# Altium footprint library HTSSOP-28_PPAD.PcbLib: 1 footprints
Each footprint in its own frame and in the unit in brackets; x right, y up, seen from the top. Pads: shape width x height; smd on the part's side, far side on the other; paste and mask are expansions set on the pad; w line width, h text height; cw(c..) or ccw(c..) is an arc to the next point about the centre after c.
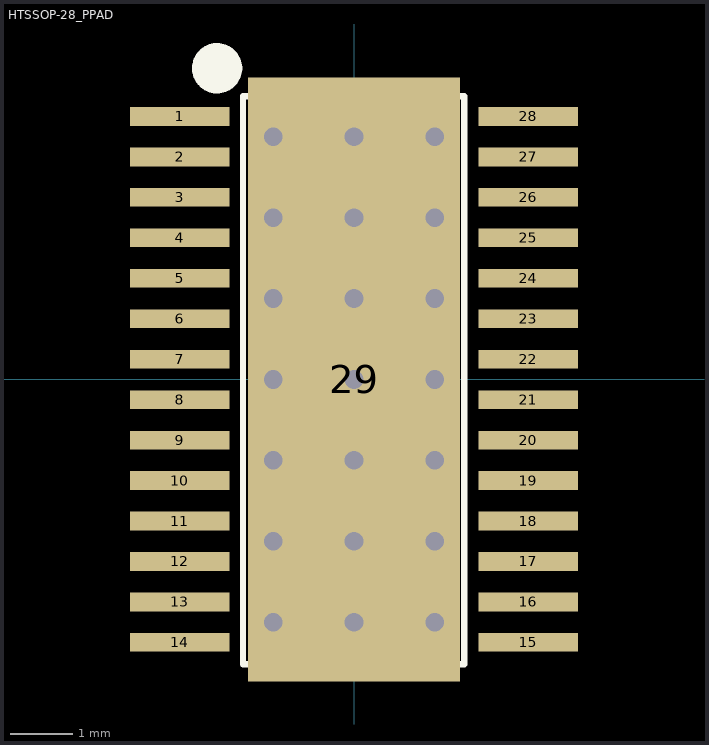
[diagram p0: the footprint, top view; thin cyan lines are the x and y axes]

## HTSSOP-28_PPAD [mm]
pads (29):
  rect 1.6x0.3 smd mask+0.07: 1(-2.8,4.225) 2(-2.8,3.575) 3(-2.8,2.925) 4(-2.8,2.275) 5(-2.8,1.625) 6(-2.8,0.975) 7(-2.8,0.325) 8(-2.8,-0.325) 9(-2.8,-0.975) 10(-2.8,-1.625) 11(-2.8,-2.275) 12(-2.8,-2.925) 13(-2.8,-3.575) 14(-2.8,-4.225) 15(2.8,-4.225) 16(2.8,-3.575) 17(2.8,-2.925) 18(2.8,-2.275) 19(2.8,-1.625) 20(2.8,-0.975) 21(2.8,-0.325) 22(2.8,0.325) 23(2.8,0.975) 24(2.8,1.625) 25(2.8,2.275) 26(2.8,2.925) 27(2.8,3.575) 28(2.8,4.225)
  rect 3.4x9.7 smd mask-1.75: 29(0,0)
via 1.3,3.9 diameter 0.6 hole 0.3
via 1.3,-3.9 diameter 0.6 hole 0.3
via 1.3,-2.6 diameter 0.6 hole 0.3
via 1.3,-1.3 diameter 0.6 hole 0.3
via 1.3,0 diameter 0.6 hole 0.3
via 1.3,1.3 diameter 0.6 hole 0.3
via 1.3,2.6 diameter 0.6 hole 0.3
via -1.3,3.9 diameter 0.6 hole 0.3
via -1.3,2.6 diameter 0.6 hole 0.3
via -1.3,1.3 diameter 0.6 hole 0.3
via -1.3,0 diameter 0.6 hole 0.3
via -1.3,-1.3 diameter 0.6 hole 0.3
via -1.3,-2.6 diameter 0.6 hole 0.3
via -1.3,-3.9 diameter 0.6 hole 0.3
via 0,-3.9 diameter 0.6 hole 0.3
via 0,-2.6 diameter 0.6 hole 0.3
via 0,-1.3 diameter 0.6 hole 0.3
via 0,0 diameter 0.6 hole 0.3
via 0,1.3 diameter 0.6 hole 0.3
via 0,2.6 diameter 0.6 hole 0.3
via 0,3.9 diameter 0.6 hole 0.3
Top Overlay:
  circle w0.41: c-2.2,5 r0.2
  lines w0.1: -1.784,4.525 -1.784,-4.575 1.772,-4.575 1.772,4.525 ; -1.784,4.55 -0.162,4.55 ccw(c0,4.55) 0.162,4.55 1.772,4.55
Top Solder:
  region: -1.2,3.1 1.2,3.1 1.2,-3.1 -1.2,-3.1
3D body "TSSOP-28.stp": height 1.11, standoff 0.01, extent -3.215,-4.5 3.215,4.5